# Altium footprint library Vyrodov.PcbLib: 62 footprints (part 2 of 5)
Each footprint in its own frame and in the unit in brackets; x right, y up, seen from the top. Pads: shape width x height; smd on the part's side, far side on the other; paste and mask are expansions set on the pad; w line width, h text height; cw(c..) or ccw(c..) is an arc to the next point about the centre after c.
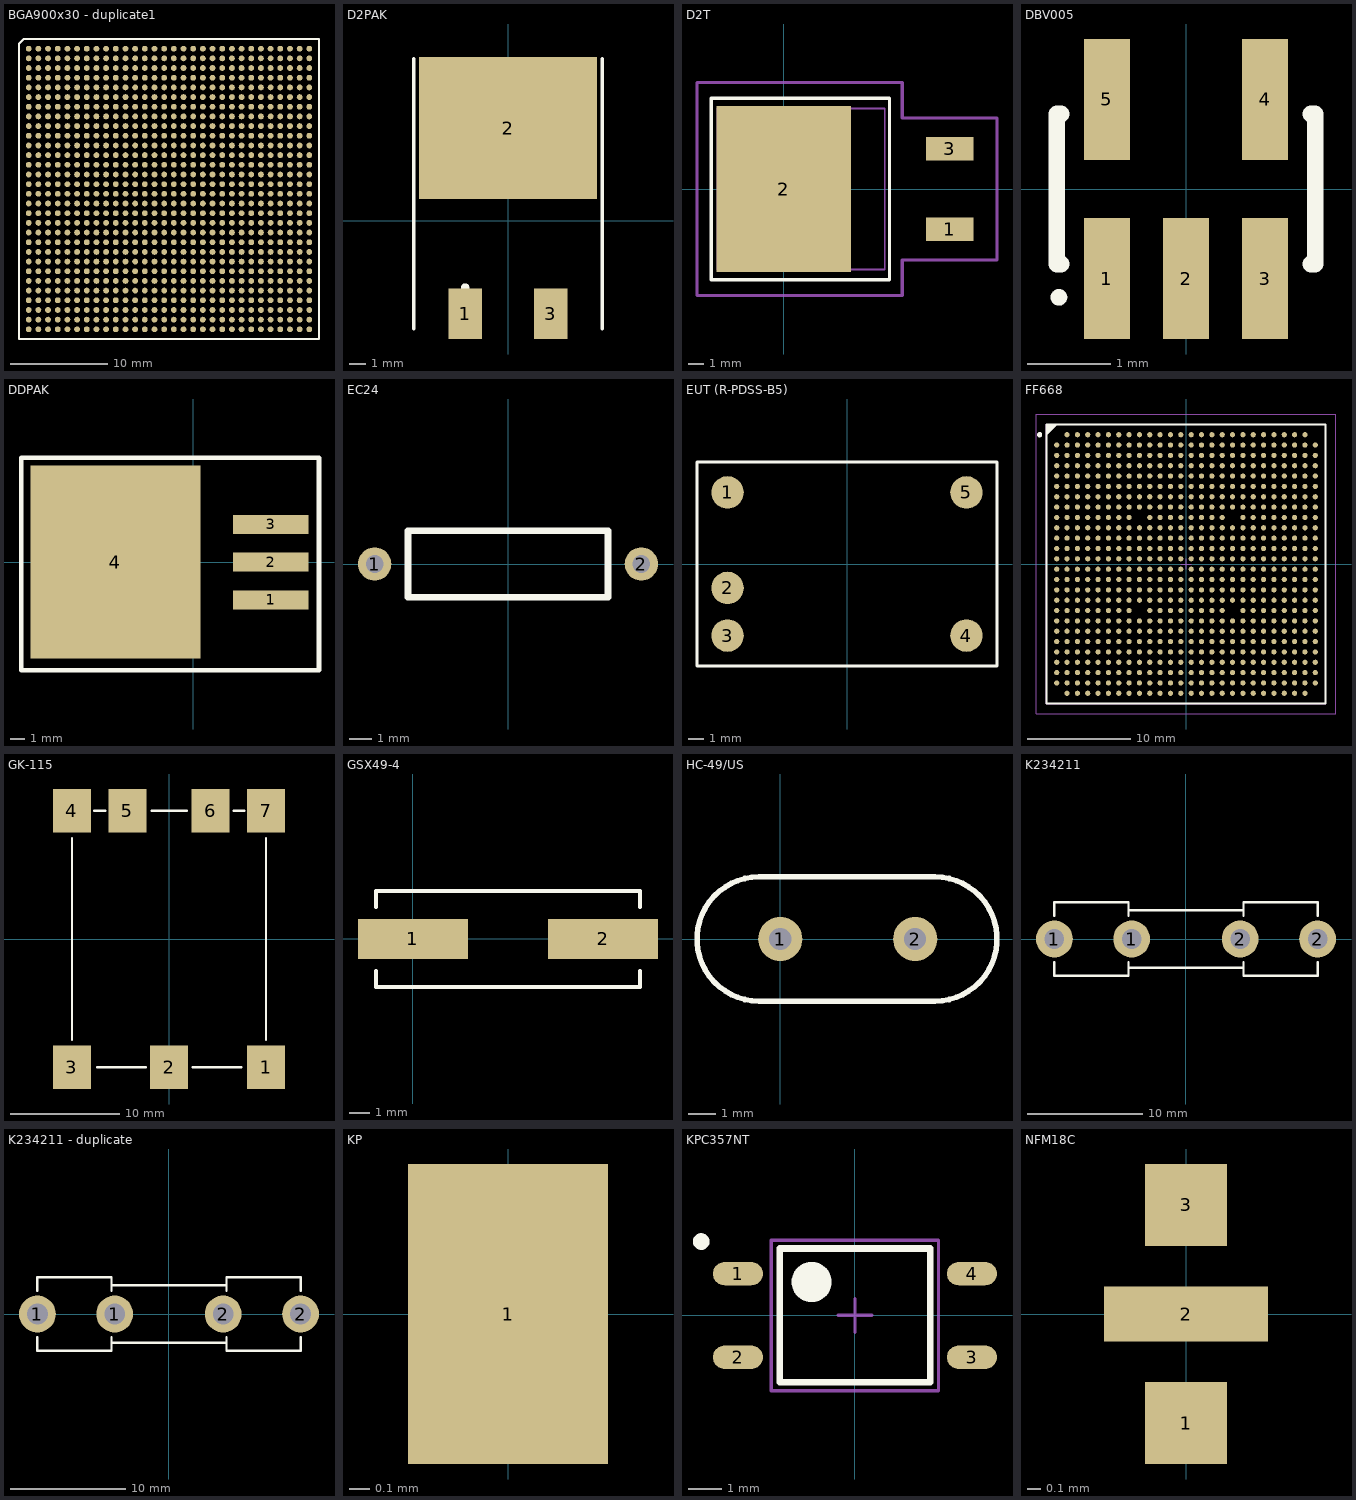
[diagram p1: the footprints below, top view; thin cyan lines are the x and y axes]

## BGA900x30 - duplicate1 [mm]
pads (900):
  round 0.6 smd: A1(14.5,-14.5) A2(15.5,-14.5) A3(16.5,-14.5) A4(17.5,-14.5) A5(18.5,-14.5) A6(19.5,-14.5) A7(20.5,-14.5) A8(21.5,-14.5) A9(22.5,-14.5) A10(23.5,-14.5) A11(24.5,-14.5) A12(25.5,-14.5) A13(26.5,-14.5) A14(27.5,-14.5) A15(28.5,-14.5) A16(29.5,-14.5) A17(30.5,-14.5) A18(31.5,-14.5) A19(32.5,-14.5) A20(33.5,-14.5) A21(34.5,-14.5) A22(35.5,-14.5) A23(36.5,-14.5) A24(37.5,-14.5) A25(38.5,-14.5) A26(39.5,-14.5) A27(40.5,-14.5) A28(41.5,-14.5) A29(42.5,-14.5) A30(43.5,-14.5) AA1(14.5,-34.5) AA2(15.5,-34.5) AA3(16.5,-34.5) AA4(17.5,-34.5) AA5(18.5,-34.5) AA6(19.5,-34.5) AA7(20.5,-34.5) AA8(21.5,-34.5) AA9(22.5,-34.5) AA10(23.5,-34.5) AA11(24.5,-34.5) AA12(25.5,-34.5) AA13(26.5,-34.5) AA14(27.5,-34.5) AA15(28.5,-34.5) AA16(29.5,-34.5) AA17(30.5,-34.5) AA18(31.5,-34.5) AA19(32.5,-34.5) AA20(33.5,-34.5) AA21(34.5,-34.5) AA22(35.5,-34.5) AA23(36.5,-34.5) AA24(37.5,-34.5) AA25(38.5,-34.5) AA26(39.5,-34.5) AA27(40.5,-34.5) AA28(41.5,-34.5) AA29(42.5,-34.5) AA30(43.5,-34.5) AB1(14.5,-35.5) AB2(15.5,-35.5) AB3(16.5,-35.5) AB4(17.5,-35.5) AB5(18.5,-35.5) AB6(19.5,-35.5) AB7(20.5,-35.5) AB8(21.5,-35.5) AB9(22.5,-35.5) AB10(23.5,-35.5) AB11(24.5,-35.5) AB12(25.5,-35.5) AB13(26.5,-35.5) AB14(27.5,-35.5) AB15(28.5,-35.5) AB16(29.5,-35.5) AB17(30.5,-35.5) AB18(31.5,-35.5) AB19(32.5,-35.5) AB20(33.5,-35.5) AB21(34.5,-35.5) AB22(35.5,-35.5) AB23(36.5,-35.5) AB24(37.5,-35.5) AB25(38.5,-35.5) AB26(39.5,-35.5) AB27(40.5,-35.5) AB28(41.5,-35.5) AB29(42.5,-35.5) AB30(43.5,-35.5) AC1(14.5,-36.5) AC2(15.5,-36.5) AC3(16.5,-36.5) AC4(17.5,-36.5) AC5(18.5,-36.5) AC6(19.5,-36.5) AC7(20.5,-36.5) AC8(21.5,-36.5) AC9(22.5,-36.5) AC10(23.5,-36.5) AC11(24.5,-36.5) AC12(25.5,-36.5) AC13(26.5,-36.5) AC14(27.5,-36.5) AC15(28.5,-36.5) AC16(29.5,-36.5) AC17(30.5,-36.5) AC18(31.5,-36.5) AC19(32.5,-36.5) AC20(33.5,-36.5) AC21(34.5,-36.5) AC22(35.5,-36.5) AC23(36.5,-36.5) AC24(37.5,-36.5) AC25(38.5,-36.5) AC26(39.5,-36.5) AC27(40.5,-36.5) AC28(41.5,-36.5) AC29(42.5,-36.5) AC30(43.5,-36.5) AD1(14.5,-37.5) AD2(15.5,-37.5) AD3(16.5,-37.5) AD4(17.5,-37.5) AD5(18.5,-37.5) AD6(19.5,-37.5) AD7(20.5,-37.5) AD8(21.5,-37.5) AD9(22.5,-37.5) AD10(23.5,-37.5) AD11(24.5,-37.5) AD12(25.5,-37.5) AD13(26.5,-37.5) AD14(27.5,-37.5) AD15(28.5,-37.5) AD16(29.5,-37.5) AD17(30.5,-37.5) AD18(31.5,-37.5) AD19(32.5,-37.5) AD20(33.5,-37.5) AD21(34.5,-37.5) AD22(35.5,-37.5) AD23(36.5,-37.5) AD24(37.5,-37.5) AD25(38.5,-37.5) AD26(39.5,-37.5) AD27(40.5,-37.5) AD28(41.5,-37.5) AD29(42.5,-37.5) AD30(43.5,-37.5) AE1(14.5,-38.5) AE2(15.5,-38.5) AE3(16.5,-38.5) AE4(17.5,-38.5) AE5(18.5,-38.5) AE6(19.5,-38.5) AE7(20.5,-38.5) AE8(21.5,-38.5) AE9(22.5,-38.5) AE10(23.5,-38.5) AE11(24.5,-38.5) AE12(25.5,-38.5) AE13(26.5,-38.5) AE14(27.5,-38.5) AE15(28.5,-38.5) AE16(29.5,-38.5) AE17(30.5,-38.5) AE18(31.5,-38.5) AE19(32.5,-38.5) AE20(33.5,-38.5) AE21(34.5,-38.5) AE22(35.5,-38.5) AE23(36.5,-38.5) AE24(37.5,-38.5) AE25(38.5,-38.5) AE26(39.5,-38.5) AE27(40.5,-38.5) AE28(41.5,-38.5) AE29(42.5,-38.5) AE30(43.5,-38.5) AF1(14.5,-39.5) AF2(15.5,-39.5) AF3(16.5,-39.5) AF4(17.5,-39.5) AF5(18.5,-39.5) AF6(19.5,-39.5) AF7(20.5,-39.5) AF8(21.5,-39.5) AF9(22.5,-39.5) AF10(23.5,-39.5) AF11(24.5,-39.5) AF12(25.5,-39.5) AF13(26.5,-39.5) AF14(27.5,-39.5) AF15(28.5,-39.5) AF16(29.5,-39.5) AF17(30.5,-39.5) AF18(31.5,-39.5) AF19(32.5,-39.5) AF20(33.5,-39.5) AF21(34.5,-39.5) AF22(35.5,-39.5) AF23(36.5,-39.5) AF24(37.5,-39.5) AF25(38.5,-39.5) AF26(39.5,-39.5) AF27(40.5,-39.5) AF28(41.5,-39.5) AF29(42.5,-39.5) AF30(43.5,-39.5) AG1(14.5,-40.5) AG2(15.5,-40.5) AG3(16.5,-40.5) AG4(17.5,-40.5) AG5(18.5,-40.5) AG6(19.5,-40.5) AG7(20.5,-40.5) AG8(21.5,-40.5) AG9(22.5,-40.5) AG10(23.5,-40.5) AG11(24.5,-40.5) AG12(25.5,-40.5) AG13(26.5,-40.5) AG14(27.5,-40.5) AG15(28.5,-40.5) AG16(29.5,-40.5) AG17(30.5,-40.5) AG18(31.5,-40.5) AG19(32.5,-40.5) AG20(33.5,-40.5) AG21(34.5,-40.5) AG22(35.5,-40.5) AG23(36.5,-40.5) AG24(37.5,-40.5) AG25(38.5,-40.5) AG26(39.5,-40.5) AG27(40.5,-40.5) AG28(41.5,-40.5) AG29(42.5,-40.5) AG30(43.5,-40.5) AH1(14.5,-41.5) AH2(15.5,-41.5) AH3(16.5,-41.5) AH4(17.5,-41.5) AH5(18.5,-41.5) AH6(19.5,-41.5) AH7(20.5,-41.5) AH8(21.5,-41.5) AH9(22.5,-41.5) AH10(23.5,-41.5) AH11(24.5,-41.5) AH12(25.5,-41.5) AH13(26.5,-41.5) AH14(27.5,-41.5) AH15(28.5,-41.5) AH16(29.5,-41.5) AH17(30.5,-41.5) AH18(31.5,-41.5) AH19(32.5,-41.5) AH20(33.5,-41.5) AH21(34.5,-41.5) AH22(35.5,-41.5) AH23(36.5,-41.5) AH24(37.5,-41.5) AH25(38.5,-41.5) AH26(39.5,-41.5) AH27(40.5,-41.5) AH28(41.5,-41.5) AH29(42.5,-41.5) AH30(43.5,-41.5) AJ1(14.5,-42.5) AJ2(15.5,-42.5) AJ3(16.5,-42.5) AJ4(17.5,-42.5) AJ5(18.5,-42.5) AJ6(19.5,-42.5) AJ7(20.5,-42.5) AJ8(21.5,-42.5) AJ9(22.5,-42.5) AJ10(23.5,-42.5) AJ11(24.5,-42.5) AJ12(25.5,-42.5) AJ13(26.5,-42.5) AJ14(27.5,-42.5) AJ15(28.5,-42.5) AJ16(29.5,-42.5) AJ17(30.5,-42.5) AJ18(31.5,-42.5) AJ19(32.5,-42.5) AJ20(33.5,-42.5) AJ21(34.5,-42.5) AJ22(35.5,-42.5) AJ23(36.5,-42.5) AJ24(37.5,-42.5) AJ25(38.5,-42.5) AJ26(39.5,-42.5) AJ27(40.5,-42.5) AJ28(41.5,-42.5) AJ29(42.5,-42.5) AJ30(43.5,-42.5) AK1(14.5,-43.5) AK2(15.5,-43.5) AK3(16.5,-43.5) AK4(17.5,-43.5) AK5(18.5,-43.5) AK6(19.5,-43.5) AK7(20.5,-43.5) AK8(21.5,-43.5) AK9(22.5,-43.5) AK10(23.5,-43.5) AK11(24.5,-43.5) AK12(25.5,-43.5) AK13(26.5,-43.5) AK14(27.5,-43.5) AK15(28.5,-43.5) AK16(29.5,-43.5) AK17(30.5,-43.5) AK18(31.5,-43.5) AK19(32.5,-43.5) AK20(33.5,-43.5) AK21(34.5,-43.5) AK22(35.5,-43.5) AK23(36.5,-43.5) AK24(37.5,-43.5) AK25(38.5,-43.5) AK26(39.5,-43.5) AK27(40.5,-43.5) AK28(41.5,-43.5) AK29(42.5,-43.5) AK30(43.5,-43.5) B1(14.5,-15.5) B2(15.5,-15.5) B3(16.5,-15.5) B4(17.5,-15.5) B5(18.5,-15.5) B6(19.5,-15.5) B7(20.5,-15.5) B8(21.5,-15.5) B9(22.5,-15.5) B10(23.5,-15.5) B11(24.5,-15.5) B12(25.5,-15.5) B13(26.5,-15.5) B14(27.5,-15.5) B15(28.5,-15.5) B16(29.5,-15.5) B17(30.5,-15.5) B18(31.5,-15.5) B19(32.5,-15.5) B20(33.5,-15.5) B21(34.5,-15.5) B22(35.5,-15.5) B23(36.5,-15.5) B24(37.5,-15.5) B25(38.5,-15.5) B26(39.5,-15.5) B27(40.5,-15.5) B28(41.5,-15.5) B29(42.5,-15.5) B30(43.5,-15.5) C1(14.5,-16.5) C2(15.5,-16.5) C3(16.5,-16.5) C4(17.5,-16.5) C5(18.5,-16.5) C6(19.5,-16.5) C7(20.5,-16.5) C8(21.5,-16.5) C9(22.5,-16.5) C10(23.5,-16.5) C11(24.5,-16.5) C12(25.5,-16.5) C13(26.5,-16.5) C14(27.5,-16.5) C15(28.5,-16.5) C16(29.5,-16.5) C17(30.5,-16.5) C18(31.5,-16.5) C19(32.5,-16.5) C20(33.5,-16.5) C21(34.5,-16.5) C22(35.5,-16.5) C23(36.5,-16.5) C24(37.5,-16.5) C25(38.5,-16.5) C26(39.5,-16.5) C27(40.5,-16.5) C28(41.5,-16.5) C29(42.5,-16.5) C30(43.5,-16.5) D1(14.5,-17.5) D2(15.5,-17.5) D3(16.5,-17.5) D4(17.5,-17.5) D5(18.5,-17.5) D6(19.5,-17.5) D7(20.5,-17.5) D8(21.5,-17.5) D9(22.5,-17.5) D10(23.5,-17.5) D11(24.5,-17.5) D12(25.5,-17.5) D13(26.5,-17.5) D14(27.5,-17.5) D15(28.5,-17.5) D16(29.5,-17.5) D17(30.5,-17.5) D18(31.5,-17.5) D19(32.5,-17.5) D20(33.5,-17.5) D21(34.5,-17.5) D22(35.5,-17.5) D23(36.5,-17.5) D24(37.5,-17.5) D25(38.5,-17.5) D26(39.5,-17.5) D27(40.5,-17.5) D28(41.5,-17.5) D29(42.5,-17.5) D30(43.5,-17.5) E1(14.5,-18.5) E2(15.5,-18.5) E3(16.5,-18.5) E4(17.5,-18.5) E5(18.5,-18.5) E6(19.5,-18.5) E7(20.5,-18.5) E8(21.5,-18.5) E9(22.5,-18.5) E10(23.5,-18.5) E11(24.5,-18.5) E12(25.5,-18.5) E13(26.5,-18.5) E14(27.5,-18.5) E15(28.5,-18.5) E16(29.5,-18.5) E17(30.5,-18.5) E18(31.5,-18.5) E19(32.5,-18.5) E20(33.5,-18.5) E21(34.5,-18.5) E22(35.5,-18.5) E23(36.5,-18.5) E24(37.5,-18.5) E25(38.5,-18.5) E26(39.5,-18.5) E27(40.5,-18.5) E28(41.5,-18.5) E29(42.5,-18.5) E30(43.5,-18.5) F1(14.5,-19.5) F2(15.5,-19.5) F3(16.5,-19.5) F4(17.5,-19.5) F5(18.5,-19.5) F6(19.5,-19.5) F7(20.5,-19.5) F8(21.5,-19.5) F9(22.5,-19.5) F10(23.5,-19.5) F11(24.5,-19.5) F12(25.5,-19.5) F13(26.5,-19.5) F14(27.5,-19.5) F15(28.5,-19.5) F16(29.5,-19.5) F17(30.5,-19.5) F18(31.5,-19.5) F19(32.5,-19.5) F20(33.5,-19.5) F21(34.5,-19.5) F22(35.5,-19.5) F23(36.5,-19.5) F24(37.5,-19.5) F25(38.5,-19.5) F26(39.5,-19.5) F27(40.5,-19.5) F28(41.5,-19.5) F29(42.5,-19.5) F30(43.5,-19.5) G1(14.5,-20.5) G2(15.5,-20.5) G3(16.5,-20.5) G4(17.5,-20.5) G5(18.5,-20.5) G6(19.5,-20.5) G7(20.5,-20.5) G8(21.5,-20.5) G9(22.5,-20.5) G10(23.5,-20.5) G11(24.5,-20.5) G12(25.5,-20.5) G13(26.5,-20.5) G14(27.5,-20.5) G15(28.5,-20.5) G16(29.5,-20.5) G17(30.5,-20.5) G18(31.5,-20.5) G19(32.5,-20.5) G20(33.5,-20.5) G21(34.5,-20.5) G22(35.5,-20.5) G23(36.5,-20.5) G24(37.5,-20.5) G25(38.5,-20.5) G26(39.5,-20.5) G27(40.5,-20.5) G28(41.5,-20.5) G29(42.5,-20.5) G30(43.5,-20.5) H1(14.5,-21.5) H2(15.5,-21.5) H3(16.5,-21.5) H4(17.5,-21.5) H5(18.5,-21.5) H6(19.5,-21.5) H7(20.5,-21.5) H8(21.5,-21.5) H9(22.5,-21.5) H10(23.5,-21.5) H11(24.5,-21.5) H12(25.5,-21.5) H13(26.5,-21.5) H14(27.5,-21.5) H15(28.5,-21.5) H16(29.5,-21.5) H17(30.5,-21.5) H18(31.5,-21.5) H19(32.5,-21.5) H20(33.5,-21.5) H21(34.5,-21.5) H22(35.5,-21.5) H23(36.5,-21.5) H24(37.5,-21.5) H25(38.5,-21.5) H26(39.5,-21.5) H27(40.5,-21.5) H28(41.5,-21.5) H29(42.5,-21.5) H30(43.5,-21.5) J1(14.5,-22.5) J2(15.5,-22.5) J3(16.5,-22.5) J4(17.5,-22.5) J5(18.5,-22.5) J6(19.5,-22.5) J7(20.5,-22.5) J8(21.5,-22.5) J9(22.5,-22.5) J10(23.5,-22.5) J11(24.5,-22.5) J12(25.5,-22.5) J13(26.5,-22.5) J14(27.5,-22.5) J15(28.5,-22.5) J16(29.5,-22.5) J17(30.5,-22.5) J18(31.5,-22.5) J19(32.5,-22.5) J20(33.5,-22.5) J21(34.5,-22.5) J22(35.5,-22.5) J23(36.5,-22.5) J24(37.5,-22.5) J25(38.5,-22.5) J26(39.5,-22.5) J27(40.5,-22.5) J28(41.5,-22.5) J29(42.5,-22.5) J30(43.5,-22.5) K1(14.5,-23.5) K2(15.5,-23.5) K3(16.5,-23.5) K4(17.5,-23.5) K5(18.5,-23.5) K6(19.5,-23.5) K7(20.5,-23.5) K8(21.5,-23.5) K9(22.5,-23.5) K10(23.5,-23.5) K11(24.5,-23.5) K12(25.5,-23.5) K13(26.5,-23.5) K14(27.5,-23.5) K15(28.5,-23.5) K16(29.5,-23.5) K17(30.5,-23.5) K18(31.5,-23.5) K19(32.5,-23.5) K20(33.5,-23.5) K21(34.5,-23.5) K22(35.5,-23.5) K23(36.5,-23.5) K24(37.5,-23.5) K25(38.5,-23.5) K26(39.5,-23.5) K27(40.5,-23.5) K28(41.5,-23.5) K29(42.5,-23.5) K30(43.5,-23.5) L1(14.5,-24.5) L2(15.5,-24.5) L3(16.5,-24.5) L4(17.5,-24.5) L5(18.5,-24.5) L6(19.5,-24.5) L7(20.5,-24.5) L8(21.5,-24.5) L9(22.5,-24.5) L10(23.5,-24.5) L11(24.5,-24.5) L12(25.5,-24.5) L13(26.5,-24.5) L14(27.5,-24.5) L15(28.5,-24.5) L16(29.5,-24.5) L17(30.5,-24.5) L18(31.5,-24.5) L19(32.5,-24.5) L20(33.5,-24.5) L21(34.5,-24.5) L22(35.5,-24.5) L23(36.5,-24.5) L24(37.5,-24.5) L25(38.5,-24.5) L26(39.5,-24.5) L27(40.5,-24.5) L28(41.5,-24.5) L29(42.5,-24.5) L30(43.5,-24.5) M1(14.5,-25.5) M2(15.5,-25.5) M3(16.5,-25.5) M4(17.5,-25.5) M5(18.5,-25.5) M6(19.5,-25.5) M7(20.5,-25.5) M8(21.5,-25.5) M9(22.5,-25.5) M10(23.5,-25.5) M11(24.5,-25.5) M12(25.5,-25.5) M13(26.5,-25.5) M14(27.5,-25.5) M15(28.5,-25.5) M16(29.5,-25.5) M17(30.5,-25.5) M18(31.5,-25.5) M19(32.5,-25.5) M20(33.5,-25.5) M21(34.5,-25.5) M22(35.5,-25.5) M23(36.5,-25.5) M24(37.5,-25.5) M25(38.5,-25.5) M26(39.5,-25.5) M27(40.5,-25.5) M28(41.5,-25.5) M29(42.5,-25.5) M30(43.5,-25.5) N1(14.5,-26.5) N2(15.5,-26.5) N3(16.5,-26.5) N4(17.5,-26.5) N5(18.5,-26.5) N6(19.5,-26.5) N7(20.5,-26.5) N8(21.5,-26.5) N9(22.5,-26.5) N10(23.5,-26.5) N11(24.5,-26.5) N12(25.5,-26.5) N13(26.5,-26.5) N14(27.5,-26.5) N15(28.5,-26.5) N16(29.5,-26.5) N17(30.5,-26.5) N18(31.5,-26.5) N19(32.5,-26.5) N20(33.5,-26.5) N21(34.5,-26.5) N22(35.5,-26.5) N23(36.5,-26.5) N24(37.5,-26.5) N25(38.5,-26.5) N26(39.5,-26.5) N27(40.5,-26.5) N28(41.5,-26.5) N29(42.5,-26.5) N30(43.5,-26.5) P1(14.5,-27.5) P2(15.5,-27.5) P3(16.5,-27.5) P4(17.5,-27.5) P5(18.5,-27.5) P6(19.5,-27.5) P7(20.5,-27.5) P8(21.5,-27.5) P9(22.5,-27.5) P10(23.5,-27.5) P11(24.5,-27.5) P12(25.5,-27.5) P13(26.5,-27.5) P14(27.5,-27.5) P15(28.5,-27.5) P16(29.5,-27.5) P17(30.5,-27.5) P18(31.5,-27.5) P19(32.5,-27.5) P20(33.5,-27.5) P21(34.5,-27.5) P22(35.5,-27.5) P23(36.5,-27.5) P24(37.5,-27.5) P25(38.5,-27.5) P26(39.5,-27.5) P27(40.5,-27.5) P28(41.5,-27.5) P29(42.5,-27.5) P30(43.5,-27.5) R1(14.5,-28.5) R2(15.5,-28.5) R3(16.5,-28.5) R4(17.5,-28.5) R5(18.5,-28.5) R6(19.5,-28.5) R7(20.5,-28.5) R8(21.5,-28.5) R9(22.5,-28.5) R10(23.5,-28.5) R11(24.5,-28.5) R12(25.5,-28.5) R13(26.5,-28.5) R14(27.5,-28.5) R15(28.5,-28.5) R16(29.5,-28.5) R17(30.5,-28.5) R18(31.5,-28.5) R19(32.5,-28.5) R20(33.5,-28.5) R21(34.5,-28.5) R22(35.5,-28.5) R23(36.5,-28.5) R24(37.5,-28.5) R25(38.5,-28.5) R26(39.5,-28.5) R27(40.5,-28.5) R28(41.5,-28.5) R29(42.5,-28.5) R30(43.5,-28.5) T1(14.5,-29.5) T2(15.5,-29.5) T3(16.5,-29.5) T4(17.5,-29.5) T5(18.5,-29.5) T6(19.5,-29.5) T7(20.5,-29.5) T8(21.5,-29.5) T9(22.5,-29.5) T10(23.5,-29.5) T11(24.5,-29.5) T12(25.5,-29.5) T13(26.5,-29.5) T14(27.5,-29.5) T15(28.5,-29.5) T16(29.5,-29.5) T17(30.5,-29.5) T18(31.5,-29.5) T19(32.5,-29.5) T20(33.5,-29.5) T21(34.5,-29.5) T22(35.5,-29.5) T23(36.5,-29.5) T24(37.5,-29.5) T25(38.5,-29.5) T26(39.5,-29.5) T27(40.5,-29.5) T28(41.5,-29.5) T29(42.5,-29.5) T30(43.5,-29.5) U1(14.5,-30.5) U2(15.5,-30.5) U3(16.5,-30.5) U4(17.5,-30.5) U5(18.5,-30.5) U6(19.5,-30.5) U7(20.5,-30.5) U8(21.5,-30.5) U9(22.5,-30.5) U10(23.5,-30.5) U11(24.5,-30.5) U12(25.5,-30.5) U13(26.5,-30.5) U14(27.5,-30.5) U15(28.5,-30.5) U16(29.5,-30.5) U17(30.5,-30.5) U18(31.5,-30.5) U19(32.5,-30.5) U20(33.5,-30.5) U21(34.5,-30.5) U22(35.5,-30.5) U23(36.5,-30.5) U24(37.5,-30.5) U25(38.5,-30.5) U26(39.5,-30.5) U27(40.5,-30.5) U28(41.5,-30.5) U29(42.5,-30.5) U30(43.5,-30.5) V1(14.5,-31.5) V2(15.5,-31.5) V3(16.5,-31.5) V4(17.5,-31.5) V5(18.5,-31.5) V6(19.5,-31.5) V7(20.5,-31.5) V8(21.5,-31.5) V9(22.5,-31.5) V10(23.5,-31.5) V11(24.5,-31.5) V12(25.5,-31.5) V13(26.5,-31.5) V14(27.5,-31.5) V15(28.5,-31.5) V16(29.5,-31.5) V17(30.5,-31.5) V18(31.5,-31.5) V19(32.5,-31.5) V20(33.5,-31.5) V21(34.5,-31.5) V22(35.5,-31.5) V23(36.5,-31.5) V24(37.5,-31.5) V25(38.5,-31.5) V26(39.5,-31.5) V27(40.5,-31.5) V28(41.5,-31.5) V29(42.5,-31.5) V30(43.5,-31.5) W1(14.5,-32.5) W2(15.5,-32.5) W3(16.5,-32.5) W4(17.5,-32.5) W5(18.5,-32.5) W6(19.5,-32.5) W7(20.5,-32.5) W8(21.5,-32.5) W9(22.5,-32.5) W10(23.5,-32.5) W11(24.5,-32.5) W12(25.5,-32.5) W13(26.5,-32.5) W14(27.5,-32.5) W15(28.5,-32.5) W16(29.5,-32.5) W17(30.5,-32.5) W18(31.5,-32.5) W19(32.5,-32.5) W20(33.5,-32.5) W21(34.5,-32.5) W22(35.5,-32.5) W23(36.5,-32.5) W24(37.5,-32.5) W25(38.5,-32.5) W26(39.5,-32.5) W27(40.5,-32.5) W28(41.5,-32.5) W29(42.5,-32.5) W30(43.5,-32.5) Y1(14.5,-33.5) Y2(15.5,-33.5) Y3(16.5,-33.5) Y4(17.5,-33.5) Y5(18.5,-33.5) Y6(19.5,-33.5) Y7(20.5,-33.5) Y8(21.5,-33.5) Y9(22.5,-33.5) Y10(23.5,-33.5) Y11(24.5,-33.5) Y12(25.5,-33.5) Y13(26.5,-33.5) Y14(27.5,-33.5) Y15(28.5,-33.5) Y16(29.5,-33.5) Y17(30.5,-33.5) Y18(31.5,-33.5) Y19(32.5,-33.5) Y20(33.5,-33.5) Y21(34.5,-33.5) Y22(35.5,-33.5) Y23(36.5,-33.5) Y24(37.5,-33.5) Y25(38.5,-33.5) Y26(39.5,-33.5) Y27(40.5,-33.5) Y28(41.5,-33.5) Y29(42.5,-33.5) Y30(43.5,-33.5)
Top Overlay:
  lines w0.2: 13.5,-44.5 13.5,-14 14,-13.5 44.5,-13.5 44.5,-44.5 13.5,-44.5

## D2PAK [mm] "D2-PAK/TO-263-AB; 3 Leads (1 Cropped); Body 15.5 (inc. leads) x 10.5 mm (LxW max)"
height 4.69
pads (3):
  rect 2x3 smd: 1(-2.54,-5.5) 3(2.54,-5.5)
  rect 10.55x8.4 smd: 2(0,5.5)
Top Overlay:
  circle w0.25: c-2.54,-3.95 r0.125
  lines w0.2: -5.575,-6.4 -5.575,9.6 ; 5.575,-6.4 5.575,9.6
3D body "User Library-DPAK.step": height 4.98, standoff -0.03, extent -5.08,-6.5 5.08,8.764

## D2T [mm]
height 4.5
pads (3):
  rect 3x1.5 smd: 1(10.5,-2.54) 3(10.5,2.54)
  rect 8.5x10.5 smd: 2(0,0)
Top Overlay:
  lines w0.2: -4.6,-5.75 -4.6,5.75 -1.75,5.75 6.7,5.75 6.7,-5.75 -4.6,-5.75
Mechanical 13:
  lines w0.1: -4.2,-5.1 -4.2,5.1 0,5.1 6.4,5.1 6.4,-5.1 -4.2,-5.1
Mechanical 15:
  lines w0.2: -5.5,-6.75 -5.5,6.75 -2.25,6.75 7.5,6.75 7.5,4.5 13.5,4.5 13.5,-4.5 7.5,-4.5 7.5,-6.75 -5.5,-6.75

## DBV005 [mm] "SOT-23/SC-74A; 5 Leads; Body 3 x 3 mm, inc. leads (LxW max)"
height 1.45
pads (5):
  rect 0.55x1.45 smd: 1(-0.95,-1.075) 2(0,-1.075) 3(0.95,-1.075) 4(0.95,1.075) 5(-0.95,1.075)
Top Overlay:
  circle w0.1: c-1.525,-1.3 r0.05
  lines w0.2: -1.5,-0.9 -1.55,-0.9 -1.55,0.9 -1.5,0.9 ; 1.5,-0.9 1.55,-0.9 1.55,0.9 1.5,0.9

## DDPAK [mil]
height 527.56
pads (4):
  rect 200x50 smd: 1(205,-100) 2(205,0) 3(205,100)
  rect 450x510 smd: 4(-205,0)
Top Overlay:
  lines w12: -454.45,-285.43 -454.45,275.59 332.95,275.59 332.95,-285.43 -454.45,-285.43

## EC24 [mm] "Axial Inductor"
height 3
pads (2):
  round 1.5 hole 0.8: 1(-6,0) 2(6,0)
Top Overlay:
  lines w0.3: -4.5,-1.5 0,-1.5 4.5,-1.5 4.5,1.5 0,1.5 -4.5,1.5 -4.5,-1.5
3D body "EC-24.stp": height 3.18, standoff -2.9, extent -6.25,-1.584 6.246,1.558

## EUT (R-PDSS-B5) [mm]
height 8.5
pads (5):
  round 2.16 smd: 1(-7.94,4.76) 2(-7.94,-1.59) 3(-7.94,-4.76) 4(7.94,-4.76) 5(7.94,4.76)
Top Overlay:
  lines w0.2: -9.97,-6.795 -9.97,6.795 9.97,6.795 9.97,-6.795 -9.97,-6.795

## FF668 [mm]
height 13.4
pads (668):
  round 0.5 smd: A2(-11.5,12.5) A3(-10.5,12.5) A4(-9.5,12.5) A5(-8.5,12.5) A6(-7.5,12.5) A7(-6.5,12.5) A8(-5.5,12.5) A9(-4.5,12.5) A10(-3.5,12.5) A11(-2.5,12.5) A12(-1.5,12.5) A13(-0.5,12.5) A14(0.5,12.5) A15(1.5,12.5) A16(2.5,12.5) A17(3.5,12.5) A18(4.5,12.5) A19(5.5,12.5) A20(6.5,12.5) A21(7.5,12.5) A22(8.5,12.5) A23(9.5,12.5) A24(10.5,12.5) A25(11.5,12.5) AA1(-12.5,-7.5) AA2(-11.5,-7.5) AA3(-10.5,-7.5) AA4(-9.5,-7.5) AA5(-8.5,-7.5) AA6(-7.5,-7.5) AA7(-6.5,-7.5) AA8(-5.5,-7.5) AA9(-4.5,-7.5) AA10(-3.5,-7.5) AA11(-2.5,-7.5) AA12(-1.5,-7.5) AA13(-0.5,-7.5) AA14(0.5,-7.5) AA15(1.5,-7.5) AA16(2.5,-7.5) AA17(3.5,-7.5) AA18(4.5,-7.5) AA19(5.5,-7.5) AA20(6.5,-7.5) AA21(7.5,-7.5) AA22(8.5,-7.5) AA23(9.5,-7.5) AA24(10.5,-7.5) AA25(11.5,-7.5) AA26(12.5,-7.5) AB1(-12.5,-8.5) AB2(-11.5,-8.5) AB3(-10.5,-8.5) AB4(-9.5,-8.5) AB5(-8.5,-8.5) AB6(-7.5,-8.5) AB7(-6.5,-8.5) AB8(-5.5,-8.5) AB9(-4.5,-8.5) AB10(-3.5,-8.5) AB11(-2.5,-8.5) AB12(-1.5,-8.5) AB13(-0.5,-8.5) AB14(0.5,-8.5) AB15(1.5,-8.5) AB16(2.5,-8.5) AB17(3.5,-8.5) AB18(4.5,-8.5) AB19(5.5,-8.5) AB20(6.5,-8.5) AB21(7.5,-8.5) AB22(8.5,-8.5) AB23(9.5,-8.5) AB24(10.5,-8.5) AB25(11.5,-8.5) AB26(12.5,-8.5) AC1(-12.5,-9.5) AC2(-11.5,-9.5) AC3(-10.5,-9.5) AC4(-9.5,-9.5) AC5(-8.5,-9.5) AC6(-7.5,-9.5) AC7(-6.5,-9.5) AC8(-5.5,-9.5) AC9(-4.5,-9.5) AC10(-3.5,-9.5) AC11(-2.5,-9.5) AC12(-1.5,-9.5) AC13(-0.5,-9.5) AC14(0.5,-9.5) AC15(1.5,-9.5) AC16(2.5,-9.5) AC17(3.5,-9.5) AC18(4.5,-9.5) AC19(5.5,-9.5) AC20(6.5,-9.5) AC21(7.5,-9.5) AC22(8.5,-9.5) AC23(9.5,-9.5) AC24(10.5,-9.5) AC25(11.5,-9.5) AC26(12.5,-9.5) AD1(-12.5,-10.5) AD2(-11.5,-10.5) AD3(-10.5,-10.5) AD4(-9.5,-10.5) AD5(-8.5,-10.5) AD6(-7.5,-10.5) AD7(-6.5,-10.5) AD8(-5.5,-10.5) AD9(-4.5,-10.5) AD10(-3.5,-10.5) AD11(-2.5,-10.5) AD12(-1.5,-10.5) AD13(-0.5,-10.5) AD14(0.5,-10.5) AD15(1.5,-10.5) AD16(2.5,-10.5) AD17(3.5,-10.5) AD18(4.5,-10.5) AD19(5.5,-10.5) AD20(6.5,-10.5) AD21(7.5,-10.5) AD22(8.5,-10.5) AD23(9.5,-10.5) AD24(10.5,-10.5) AD25(11.5,-10.5) AD26(12.5,-10.5) AE1(-12.5,-11.5) AE2(-11.5,-11.5) AE3(-10.5,-11.5) AE4(-9.5,-11.5) AE5(-8.5,-11.5) AE6(-7.5,-11.5) AE7(-6.5,-11.5) AE8(-5.5,-11.5) AE9(-4.5,-11.5) AE10(-3.5,-11.5) AE11(-2.5,-11.5) AE12(-1.5,-11.5) AE13(-0.5,-11.5) AE14(0.5,-11.5) AE15(1.5,-11.5) AE16(2.5,-11.5) AE17(3.5,-11.5) AE18(4.5,-11.5) AE19(5.5,-11.5) AE20(6.5,-11.5) AE21(7.5,-11.5) AE22(8.5,-11.5) AE23(9.5,-11.5) AE24(10.5,-11.5) AE25(11.5,-11.5) AE26(12.5,-11.5) AF2(-11.5,-12.5) AF3(-10.5,-12.5) AF4(-9.5,-12.5) AF5(-8.5,-12.5) AF6(-7.5,-12.5) AF7(-6.5,-12.5) AF8(-5.5,-12.5) AF9(-4.5,-12.5) AF10(-3.5,-12.5) AF11(-2.5,-12.5) AF12(-1.5,-12.5) AF13(-0.5,-12.5) AF14(0.5,-12.5) AF15(1.5,-12.5) AF16(2.5,-12.5) AF17(3.5,-12.5) AF18(4.5,-12.5) AF19(5.5,-12.5) AF20(6.5,-12.5) AF21(7.5,-12.5) AF22(8.5,-12.5) AF23(9.5,-12.5) AF24(10.5,-12.5) AF25(11.5,-12.5) B1(-12.5,11.5) B2(-11.5,11.5) B3(-10.5,11.5) B4(-9.5,11.5) B5(-8.5,11.5) B6(-7.5,11.5) B7(-6.5,11.5) B8(-5.5,11.5) B9(-4.5,11.5) B10(-3.5,11.5) B11(-2.5,11.5) B12(-1.5,11.5) B13(-0.5,11.5) B14(0.5,11.5) B15(1.5,11.5) B16(2.5,11.5) B17(3.5,11.5) B18(4.5,11.5) B19(5.5,11.5) B20(6.5,11.5) B21(7.5,11.5) B22(8.5,11.5) B23(9.5,11.5) B24(10.5,11.5) B25(11.5,11.5) B26(12.5,11.5) C1(-12.5,10.5) C2(-11.5,10.5) C3(-10.5,10.5) C4(-9.5,10.5) C5(-8.5,10.5) C6(-7.5,10.5) C7(-6.5,10.5) C8(-5.5,10.5) C9(-4.5,10.5) C10(-3.5,10.5) C11(-2.5,10.5) C12(-1.5,10.5) C13(-0.5,10.5) C14(0.5,10.5) C15(1.5,10.5) C16(2.5,10.5) C17(3.5,10.5) C18(4.5,10.5) C19(5.5,10.5) C20(6.5,10.5) C21(7.5,10.5) C22(8.5,10.5) C23(9.5,10.5) C24(10.5,10.5) C25(11.5,10.5) C26(12.5,10.5) D1(-12.5,9.5) D2(-11.5,9.5) D3(-10.5,9.5) D4(-9.5,9.5) D5(-8.5,9.5) D6(-7.5,9.5) D7(-6.5,9.5) D8(-5.5,9.5) D9(-4.5,9.5) D10(-3.5,9.5) D11(-2.5,9.5) D12(-1.5,9.5) D13(-0.5,9.5) D14(0.5,9.5) D15(1.5,9.5) D16(2.5,9.5) D17(3.5,9.5) D18(4.5,9.5) D19(5.5,9.5) D20(6.5,9.5) D21(7.5,9.5) D22(8.5,9.5) D23(9.5,9.5) D24(10.5,9.5) D25(11.5,9.5) D26(12.5,9.5) E1(-12.5,8.5) E2(-11.5,8.5) E3(-10.5,8.5) E4(-9.5,8.5) E5(-8.5,8.5) E6(-7.5,8.5) E7(-6.5,8.5) E8(-5.5,8.5) E9(-4.5,8.5) E10(-3.5,8.5) E11(-2.5,8.5) E12(-1.5,8.5) E13(-0.5,8.5) E14(0.5,8.5) E15(1.5,8.5) E16(2.5,8.5) E17(3.5,8.5) E18(4.5,8.5) E19(5.5,8.5) E20(6.5,8.5) E21(7.5,8.5) E22(8.5,8.5) E23(9.5,8.5) E24(10.5,8.5) E25(11.5,8.5) E26(12.5,8.5) F1(-12.5,7.5) F2(-11.5,7.5) F3(-10.5,7.5) F4(-9.5,7.5) F5(-8.5,7.5) F6(-7.5,7.5) F7(-6.5,7.5) F8(-5.5,7.5) F9(-4.5,7.5) F10(-3.5,7.5) F11(-2.5,7.5) F12(-1.5,7.5) F13(-0.5,7.5) F14(0.5,7.5) F15(1.5,7.5) F16(2.5,7.5) F17(3.5,7.5) F18(4.5,7.5) F19(5.5,7.5) F20(6.5,7.5) F21(7.5,7.5) F22(8.5,7.5) F23(9.5,7.5) F24(10.5,7.5) F25(11.5,7.5) F26(12.5,7.5) G1(-12.5,6.5) G2(-11.5,6.5) G3(-10.5,6.5) G4(-9.5,6.5) G5(-8.5,6.5) G6(-7.5,6.5) G7(-6.5,6.5) G8(-5.5,6.5) G9(-4.5,6.5) G10(-3.5,6.5) G11(-2.5,6.5) G12(-1.5,6.5) G13(-0.5,6.5) G14(0.5,6.5) G15(1.5,6.5) G16(2.5,6.5) G17(3.5,6.5) G18(4.5,6.5) G19(5.5,6.5) G20(6.5,6.5) G21(7.5,6.5) G22(8.5,6.5) G23(9.5,6.5) G24(10.5,6.5) G25(11.5,6.5) G26(12.5,6.5) H1(-12.5,5.5) H2(-11.5,5.5) H3(-10.5,5.5) H4(-9.5,5.5) H5(-8.5,5.5) H6(-7.5,5.5) H7(-6.5,5.5) H8(-5.5,5.5) H9(-4.5,5.5) H10(-3.5,5.5) H11(-2.5,5.5) H12(-1.5,5.5) H13(-0.5,5.5) H14(0.5,5.5) H15(1.5,5.5) H16(2.5,5.5) H17(3.5,5.5) H18(4.5,5.5) H19(5.5,5.5) H20(6.5,5.5) H21(7.5,5.5) H22(8.5,5.5) H23(9.5,5.5) H24(10.5,5.5) H25(11.5,5.5) H26(12.5,5.5) J1(-12.5,4.5) J2(-11.5,4.5) J3(-10.5,4.5) J4(-9.5,4.5) J5(-8.5,4.5) J6(-7.5,4.5) J7(-6.5,4.5) J8(-5.5,4.5) J10(-3.5,4.5) J11(-2.5,4.5) J12(-1.5,4.5) J13(-0.5,4.5) J14(0.5,4.5) J15(1.5,4.5) J16(2.5,4.5) J17(3.5,4.5) J19(5.5,4.5) J20(6.5,4.5) J21(7.5,4.5) J22(8.5,4.5) J23(9.5,4.5) J24(10.5,4.5) J25(11.5,4.5) J26(12.5,4.5) K1(-12.5,3.5) K2(-11.5,3.5) K3(-10.5,3.5) K4(-9.5,3.5) K5(-8.5,3.5) K6(-7.5,3.5) K7(-6.5,3.5) K8(-5.5,3.5) K9(-4.5,3.5) K10(-3.5,3.5) K11(-2.5,3.5) K12(-1.5,3.5) K13(-0.5,3.5) K14(0.5,3.5) K15(1.5,3.5) K16(2.5,3.5) K17(3.5,3.5) K18(4.5,3.5) K19(5.5,3.5) K20(6.5,3.5) K21(7.5,3.5) K22(8.5,3.5) K23(9.5,3.5) K24(10.5,3.5) K25(11.5,3.5) K26(12.5,3.5) L1(-12.5,2.5) L2(-11.5,2.5) L3(-10.5,2.5) L4(-9.5,2.5) L5(-8.5,2.5) L6(-7.5,2.5) L7(-6.5,2.5) L8(-5.5,2.5) L9(-4.5,2.5) L10(-3.5,2.5) L11(-2.5,2.5) L12(-1.5,2.5) L13(-0.5,2.5) L14(0.5,2.5) L15(1.5,2.5) L16(2.5,2.5) L17(3.5,2.5) L18(4.5,2.5) L19(5.5,2.5) L20(6.5,2.5) L21(7.5,2.5) L22(8.5,2.5) L23(9.5,2.5) L24(10.5,2.5) L25(11.5,2.5) L26(12.5,2.5) M1(-12.5,1.5) M2(-11.5,1.5) M3(-10.5,1.5) M4(-9.5,1.5) M5(-8.5,1.5) M6(-7.5,1.5) M7(-6.5,1.5) M8(-5.5,1.5) M9(-4.5,1.5) M10(-3.5,1.5) M11(-2.5,1.5) M12(-1.5,1.5) M13(-0.5,1.5) M14(0.5,1.5) M15(1.5,1.5) M16(2.5,1.5) M17(3.5,1.5) M18(4.5,1.5) M19(5.5,1.5) M20(6.5,1.5) M21(7.5,1.5) M22(8.5,1.5) M23(9.5,1.5) M24(10.5,1.5) M25(11.5,1.5) M26(12.5,1.5) N1(-12.5,0.5) N2(-11.5,0.5) N3(-10.5,0.5) N4(-9.5,0.5) N5(-8.5,0.5) N6(-7.5,0.5) N7(-6.5,0.5) N8(-5.5,0.5) N9(-4.5,0.5) N10(-3.5,0.5) N11(-2.5,0.5) N12(-1.5,0.5) N13(-0.5,0.5) N14(0.5,0.5) N15(1.5,0.5) N16(2.5,0.5) N17(3.5,0.5) N18(4.5,0.5) N19(5.5,0.5) N20(6.5,0.5) N21(7.5,0.5) N22(8.5,0.5) N23(9.5,0.5) N24(10.5,0.5) N25(11.5,0.5) N26(12.5,0.5) P1(-12.5,-0.5) P2(-11.5,-0.5) P3(-10.5,-0.5) P4(-9.5,-0.5) P5(-8.5,-0.5) P6(-7.5,-0.5) P7(-6.5,-0.5) P8(-5.5,-0.5) P9(-4.5,-0.5) P10(-3.5,-0.5) P11(-2.5,-0.5) P12(-1.5,-0.5) P13(-0.5,-0.5) P14(0.5,-0.5) P15(1.5,-0.5) P16(2.5,-0.5) P17(3.5,-0.5) P18(4.5,-0.5) P19(5.5,-0.5) P20(6.5,-0.5) P21(7.5,-0.5) P22(8.5,-0.5) P23(9.5,-0.5) P24(10.5,-0.5) P25(11.5,-0.5) P26(12.5,-0.5) R1(-12.5,-1.5) R2(-11.5,-1.5) R3(-10.5,-1.5) R4(-9.5,-1.5) R5(-8.5,-1.5) R6(-7.5,-1.5) R7(-6.5,-1.5) R8(-5.5,-1.5) R9(-4.5,-1.5) R10(-3.5,-1.5) R11(-2.5,-1.5) R12(-1.5,-1.5) R13(-0.5,-1.5) R14(0.5,-1.5) R15(1.5,-1.5) R16(2.5,-1.5) R17(3.5,-1.5) R18(4.5,-1.5) R19(5.5,-1.5) R20(6.5,-1.5) R21(7.5,-1.5) R22(8.5,-1.5) R23(9.5,-1.5) R24(10.5,-1.5) R25(11.5,-1.5) R26(12.5,-1.5) T1(-12.5,-2.5) T2(-11.5,-2.5) T3(-10.5,-2.5) T4(-9.5,-2.5) T5(-8.5,-2.5) T6(-7.5,-2.5) T7(-6.5,-2.5) T8(-5.5,-2.5) T9(-4.5,-2.5) T10(-3.5,-2.5) T11(-2.5,-2.5) T12(-1.5,-2.5) T13(-0.5,-2.5) T14(0.5,-2.5) T15(1.5,-2.5) T16(2.5,-2.5) T17(3.5,-2.5) T18(4.5,-2.5) T19(5.5,-2.5) T20(6.5,-2.5) T21(7.5,-2.5) T22(8.5,-2.5) T23(9.5,-2.5) T24(10.5,-2.5) T25(11.5,-2.5) T26(12.5,-2.5) U1(-12.5,-3.5) U2(-11.5,-3.5) U3(-10.5,-3.5) U4(-9.5,-3.5) U5(-8.5,-3.5) U6(-7.5,-3.5) U7(-6.5,-3.5) U8(-5.5,-3.5) U9(-4.5,-3.5) U10(-3.5,-3.5) U11(-2.5,-3.5) U12(-1.5,-3.5) U13(-0.5,-3.5) U14(0.5,-3.5) U15(1.5,-3.5) U16(2.5,-3.5) U17(3.5,-3.5) U18(4.5,-3.5) U19(5.5,-3.5) U20(6.5,-3.5) U21(7.5,-3.5) U22(8.5,-3.5) U23(9.5,-3.5) U24(10.5,-3.5) U25(11.5,-3.5) U26(12.5,-3.5) V1(-12.5,-4.5) V2(-11.5,-4.5) V3(-10.5,-4.5) V4(-9.5,-4.5) V5(-8.5,-4.5) V6(-7.5,-4.5) V7(-6.5,-4.5) V8(-5.5,-4.5) V10(-3.5,-4.5) V11(-2.5,-4.5) V12(-1.5,-4.5) V13(-0.5,-4.5) V14(0.5,-4.5) V15(1.5,-4.5) V16(2.5,-4.5) V17(3.5,-4.5) V19(5.5,-4.5) V20(6.5,-4.5) V21(7.5,-4.5) V22(8.5,-4.5) V23(9.5,-4.5) V24(10.5,-4.5) V25(11.5,-4.5) V26(12.5,-4.5) W1(-12.5,-5.5) W2(-11.5,-5.5) W3(-10.5,-5.5) W4(-9.5,-5.5) W5(-8.5,-5.5) W6(-7.5,-5.5) W7(-6.5,-5.5) W8(-5.5,-5.5) W9(-4.5,-5.5) W10(-3.5,-5.5) W11(-2.5,-5.5) W12(-1.5,-5.5) W13(-0.5,-5.5) W14(0.5,-5.5) W15(1.5,-5.5) W16(2.5,-5.5) W17(3.5,-5.5) W18(4.5,-5.5) W19(5.5,-5.5) W20(6.5,-5.5) W21(7.5,-5.5) W22(8.5,-5.5) W23(9.5,-5.5) W24(10.5,-5.5) W25(11.5,-5.5) W26(12.5,-5.5) Y1(-12.5,-6.5) Y2(-11.5,-6.5) Y3(-10.5,-6.5) Y4(-9.5,-6.5) Y5(-8.5,-6.5) Y6(-7.5,-6.5) Y7(-6.5,-6.5) Y8(-5.5,-6.5) Y9(-4.5,-6.5) Y10(-3.5,-6.5) Y11(-2.5,-6.5) Y12(-1.5,-6.5) Y13(-0.5,-6.5) Y14(0.5,-6.5) Y15(1.5,-6.5) Y16(2.5,-6.5) Y17(3.5,-6.5) Y18(4.5,-6.5) Y19(5.5,-6.5) Y20(6.5,-6.5) Y21(7.5,-6.5) Y22(8.5,-6.5) Y23(9.5,-6.5) Y24(10.5,-6.5) Y25(11.5,-6.5) Y26(12.5,-6.5)
Top Overlay:
  circle w0.25: c-14.15,12.5 r0.125
  region: -12.5,13.5 -13.5,12.5 -13.5,13.5
  lines w0.2: -13.5,12.5 -12.5,13.5 ; -13.5,-13.5 13.5,-13.5 13.5,13.5 -13.5,13.5 -13.5,-13.5
Mechanical 13:
  lines w0.1: -13.5,-13.5 13.5,-13.5 13.5,13.5 -13.5,13.5 -13.5,-13.5
Mechanical 15:
  lines w0.1: -0.5,0 0.5,0 ; 0,-0.5 0,0.5 ; -14.5,-14.5 14.5,-14.5 14.5,14.5 -14.5,14.5 -14.5,-14.5
3D body: height 2.85, standoff 0, extent -13.5,-13.5 13.5,13.5

## GK-115 [mm]
height 14
pads (7):
  rect 3.5x4 smd: 1(8.9,-11.75) 2(0,-11.75) 3(-8.9,-11.75) 4(-8.9,11.75) 5(-3.81,11.75) 6(3.81,11.75) 7(8.9,11.75)
Top Overlay:
  lines w0.2: -8.9,-9.25 -8.9,9.25 ; -6.85,11.75 -5.85,11.75 ; -6.6,-11.75 -2.1,-11.75 ; -1.6,11.75 1.65,11.75 ; 2.15,-11.75 6.65,-11.75 ; 5.9,11.75 6.9,11.75 ; 8.9,-9.25 8.9,9.25

## GSX49-4 [mm] "SM Crystal"
height 4.3
pads (2):
  rect 5.5x2 smd: 1(0,0) 2(9.5,0)
Top Overlay:
  lines w0.2: -1.85,-1.594 -1.85,-2.395 11.35,-2.395 11.35,-1.594 ; -1.85,1.604 -1.85,2.405 11.35,2.405 11.35,1.604
3D body "User Library-ECS-240-20-5PX-TR.step": height 4.3, standoff 0, extent -1.85,-2.395 11.35,2.405

## HC-49/US [mm]
height 3.5
pads (2):
  round 1.6 hole 0.8: 1(0,0) 2(4.88,0)
Top Overlay:
  lines w0.2: -0.764,-2.25 cw(c-0.764,0) -0.764,2.25 ; -0.71,-2.25 5.59,-2.25 ccw(c5.59,0) 5.59,2.25 -0.71,2.25

## K234211 [mm]
pads (4):
  round 3.2 hole 1.7: 1(-11.439,0) 1(-4.719,0) 2(4.711,0) 2(11.439,0)
Top Overlay:
  lines w0.2: -11.45,-2 -11.45,-3.2 -5,-3.2 -5,-2.5 ; -11.45,2 -11.45,3.2 -5,3.2 -5,2 ; -5,-2 -5,-2.5 ; -5,2.5 5,2.5 ; 5,-2.5 -5,-2.5 ; 5,-2 5,-3.2 11.45,-3.2 11.45,-2 ; 5,2 5,2.5 ; 11.45,2 11.45,3.2 5,3.2 5,2.5
3D body "User Library-Clips FC-201 with fuse 5x20.STEP": height 8.63, standoff -3.56, extent -11.7,-3.173 11.678,3.173

## K234211 - duplicate [mm] "Fuse holder"
height 6
pads (4):
  round 3.2 hole 1.8: 1(-11.439,0) 1(-4.719,0) 2(4.711,0) 2(11.439,0)
Top Overlay:
  lines w0.2: -11.45,-2 -11.45,-3.2 -5,-3.2 -5,-2.5 ; -11.45,2 -11.45,3.2 -5,3.2 -5,2 ; -5,-2 -5,-2.5 ; -5,2.5 5,2.5 ; 5,-2.5 -5,-2.5 ; 5,-2 5,-3.2 11.45,-3.2 11.45,-2 ; 5,2 5,2.5 ; 11.45,2 11.45,3.2 5,3.2 5,2.5
3D body "User Library-Clips FC-201 with fuse 5x20.STEP": height 8.63, standoff -3.56, extent -11.7,-3.173 11.678,3.173

## KP [mm]
height 13.4
pads (1):
  rect 1x1.5 smd: 1(0,0)

## KPC357NT [mm] "Optotransistor"
pads (4):
  oval 1.5x0.7 smd: 1(-3.5,1.25) 2(-3.5,-1.25) 3(3.5,-1.25) 4(3.5,1.25)
Top Overlay:
  circle w0.25: c-4.6,2.21 r0.125
  circle w0.6: c-1.3,1 r0.3
  lines w0.2: -2.25,-2 -2.25,2 2.25,2 2.25,-2 -2.25,-2
Mechanical 13:
  lines w0.1: -2.5,-2.25 -2.5,2.25 2.5,2.25 2.5,-2.25 -2.5,-2.25
Mechanical 15:
  lines w0.1: -0.5,0 0.5,0 ; 0,-0.5 0,0.5

## NFM18C [mm]
height 1.2
pads (3):
  rect 0.6x0.6 smd: 1(-0.002,-0.797) 3(-0.002,0.803)
  rect 1.2x0.4 smd: 2(-0.002,0.003)
3D body: height 0.79, standoff 0, extent -0.377,-0.772 0.373,0.778
3D body: height 0.6, standoff 0, extent -0.402,-0.197 -0.252,0.203
3D body: height 0.6, standoff 0, extent 0.248,-0.197 0.398,0.203
3D body: height 0.6, standoff 0, extent -0.402,0.503 0.398,0.803
3D body: height 0.6, standoff 0, extent -0.402,-0.797 0.398,-0.497